# EAGLE library part GY-BPM280 (library BMP280)
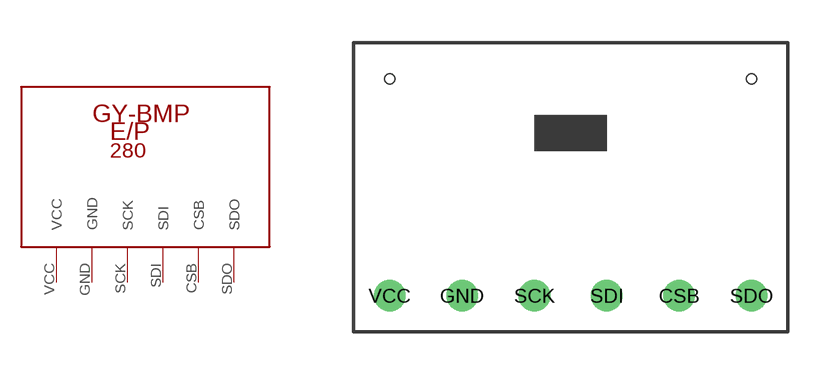
[diagram p0: symbol with the pads of GY-BMP280-FOOTPRINT; footprint GY-BMP280-FOOTPRINT]

Designator prefix -

## GY-BPM280  [GY-BMP280-FOOTPRINT]
CSB  CSB
GND  GND
SCK  SCK
SDI  SDI
SDO  SDO
VCC  VCC

## Footprint GY-BMP280-FOOTPRINT (pad centres in mm)
drill 0.6: CSB 11.43,0; GND 3.81,0; SCK 6.35,0; SDI 8.89,0; SDO 13.97,0; VCC 1.27,0
hole 0.35 at 1.27,7.62
hole 0.35 at 13.97,7.62